# EAGLE library part 62674-081121ALF (library FCI_By_element14_Batch_1)
CONN FPC/FFC 8POS .5MM VERT SMD
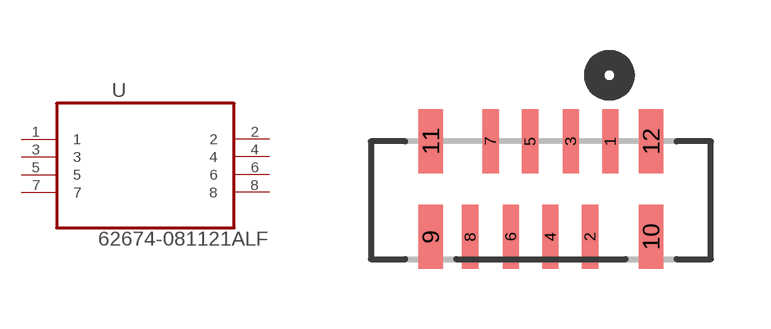
[diagram p4: symbol with the pads of FCI_62674-081121ALF; footprint FCI_62674-081121ALF]

Designator prefix U

## 62674-081121ALF (MPN: 62674-081121ALF; OC_FARNELL: 1830626; OC_NEWARK: 03M2158; PACKAGE: CONN-8POS; SUPPLIER: FCI)  [FCI_62674-081121ALF]
1  1  pas
2  2  pas
3  3  pas
4  4  pas
5  5  pas
6  6  pas
7  7  pas
8  8  pas

## Footprint FCI_62674-081121ALF (pad centres in mm)
smd 0.406 x 1.6: 1 0,4.775; 2 -0.508,2.388; 3 -0.991,4.775; 4 -1.499,2.388; 5 -2.007,4.775; 6 -2.489,2.388; 7 -2.997,4.775; 8 -3.505,2.388
smd 0.61 x 1.6: 9 -4.496,2.388; 10 1.016,2.388; 11 -4.496,4.775; 12 1.016,4.775